# Altium schematic symbol library AP62200WU-7.SchLib: 2 symbols
Pins are listed as number, name and electrical type; pins without a type are passive.

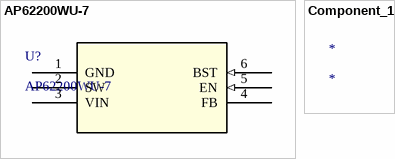
[diagram p0: symbols AP62200WU-7 to Component_1]

## AP62200WU-7
designator U?
No Description Available; Mfr_Name: Diodes Inc; Copyright: Copyright (C) 2022 Ultra Librarian. All rights reserved.; Manufacturer_Part_Number: AP62200WU-7; Digi-Key_Part_Number_1: 31-AP62200WU-7TR-ND; Digi-Key_Part_Number_2: 31-AP62200WU-7CT-ND; Digi-Key_Part_Number_3: 31-AP62200WU-7DKR-ND; RefDes: RefDes; Type: DEV
footprint TSOT26-WU_DIO
pins: 1 GND, 2 SW, 3 VIN (power), 4 FB, 5 EN (in), 6 BST (in)

## Component_1
designator *